# Altium schematic symbol library KLS1-4.20-2x12.Schlib: 1 symbol
Pins are listed as number, name and electrical type; pins without a type are passive.

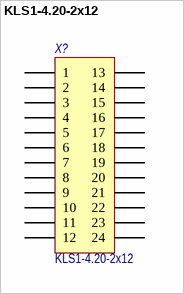
[diagram p0: symbol KLS1-4.20-2x12]

## KLS1-4.20-2x12
designator X?
Вилка ATX на плату 4.2мм 24pin; Потребление, Вт: 0,000; Назначение: Вилка ATX на плату 4.2мм 24pin; Наименование: KLS1-4.20-2x12
footprint KLS1-4.20-2X12
footprint KLS1-4.20-2X12-R
pins: 1, 2, 3, 4, 5, 6, 7, 8, 9, 10, 11, 12, 13, 14, 15, 16, 17, 18, 19, 20, 21, 22, 23, 24